# Altium integrated library MAX30003CTI_.IntLib: 1 symbol
Pins are listed as number, name and electrical type; pins without a type are passive.

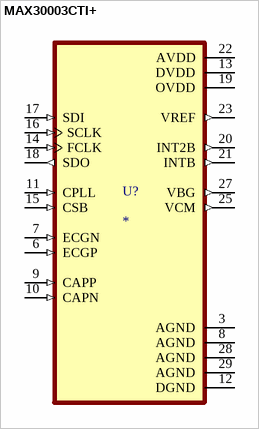
[diagram p0: symbol MAX30003CTI+]

## MAX30003CTI+
designator U?
AFE General Purpose 1 ADC 18bit 28-Pin TQFN EP Tray; MF: Maxim Integrated Products; MP: MAX30003CTI+; SnapEDA_Link: https://www.snapeda.com/parts/MAX30003CTI+/Maxim+Integrated/view-part/?ref=snap; Package: None; Value: *; Check_prices: https://www.snapeda.com/parts/MAX30003CTI+/Maxim+Integrated/view-part/?ref=eda
footprint QFN50P500X500X80-29N
pins: 3 AGND (power), 6 ECGP (in), 7 ECGN (in), 8 AGND (power), 9 CAPP (in), 10 CAPN (in), 11 CPLL (in), 12 DGND (power), 13 DVDD (power), 14 FCLK (in), 15 CSB (in), 16 SCLK (in), 17 SDI (in), 18 SDO (out), 19 OVDD (power), 20 INT2B (out), 21 INTB (out), 22 AVDD (power), 23 VREF (out), 25 VCM (out), 27 VBG (out), 28 AGND (power), 29 AGND (power)